# EAGLE library part LTC6812-1 (library linear-technology)
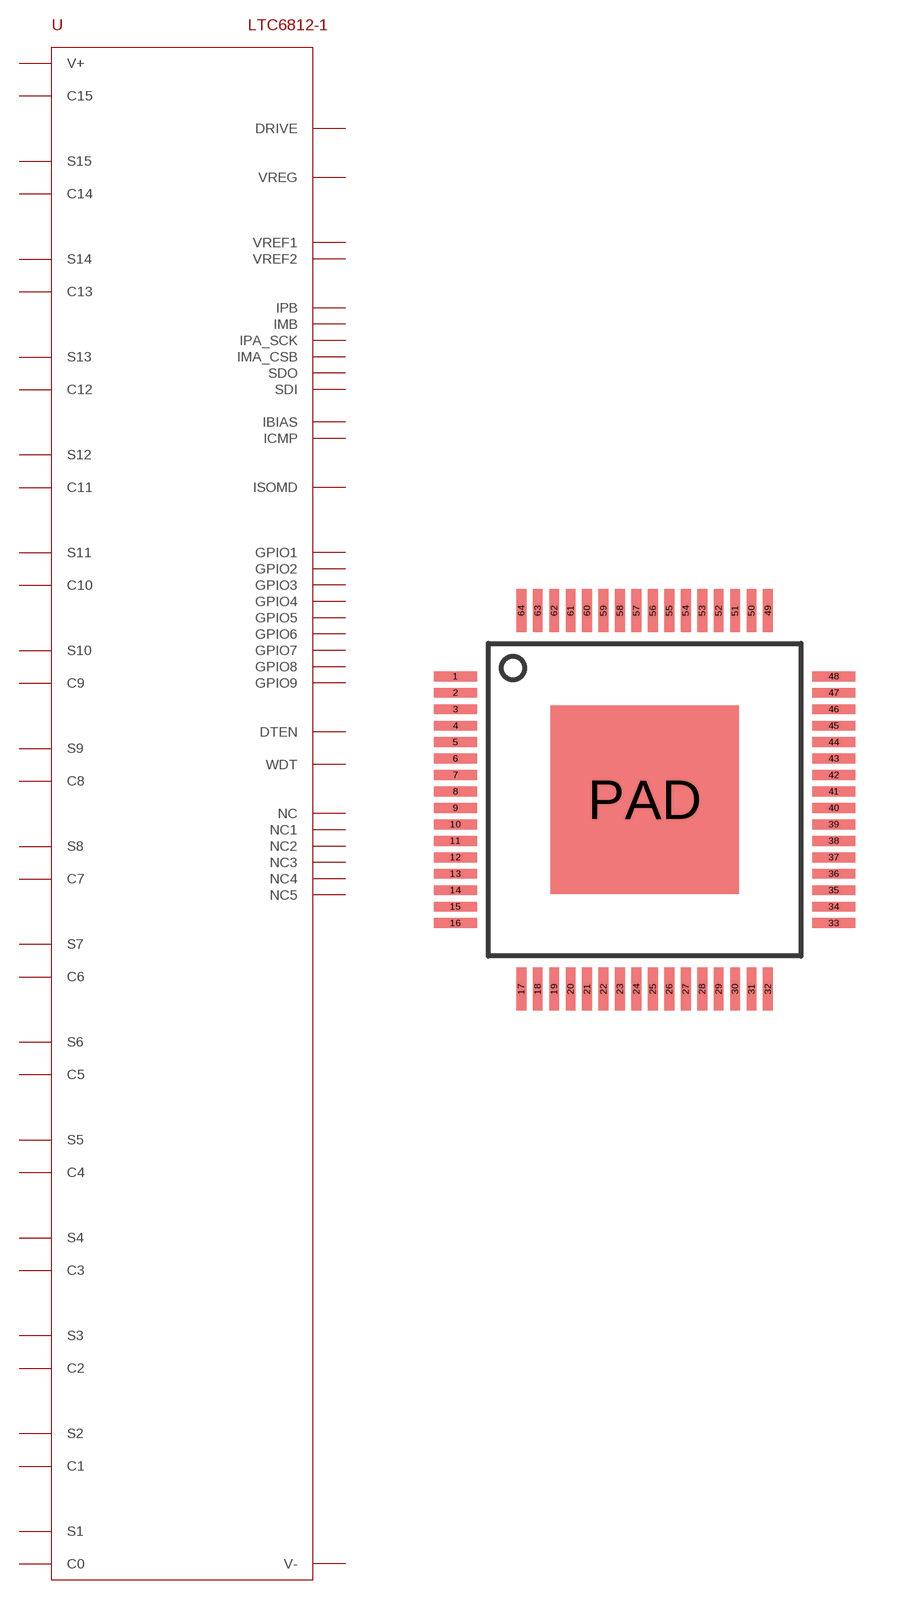
[diagram p36: symbol with the pads of LTC6812-1; footprint LTC6812-1]

Designator prefix U

## LTC6812-1  [LTC6812-1]
1  V+
2  NC
3  NC1
4  C15
5  S15
6  C14
7  S14
8  C13
9  S13
10  C12
11  S12
12  C11
13  S11
14  NC2
15  NC3
16  C10
17  S10
18  C9
19  S9
20  C8
21  S8
22  C7
23  S7
24  C6
25  S6
26  NC4
27  NC5
28  C5
29  S5
30  C4
31  S4
32  C3
33  S3
34  C2
35  S2
36  C1
37  S1
38  C0
39  GPIO1
40  GPIO2
41  GPIO3
42  GPIO4
43  GPIO5
44  GPIO6
45  GPIO7
46  GPIO8
47  GPIO9
48  VREG
49  DRIVE
50  VREF2
51  VREF1
52  DTEN
53  SDI
54  SDO
55  ISOMD
56  WDT
57  IBIAS
58  ICMP
59  V-
60  V-
61  IMA_CSB
62  IPA_SCK
63  IMB
64  IPB
PAD  V-

## Footprint LTC6812-1 (pad centres in mm)
smd 1.3 x 0.3: 1 -5.75,3.75; 2 -5.75,3.25; 3 -5.75,2.75; 4 -5.75,2.25; 5 -5.75,1.75; 6 -5.75,1.25; 7 -5.75,0.75; 8 -5.75,0.25; 9 -5.75,-0.25; 10 -5.75,-0.75; 11 -5.75,-1.25; 12 -5.75,-1.75; 13 -5.75,-2.25; 14 -5.75,-2.75; 15 -5.75,-3.25; 16 -5.75,-3.75; 33 5.75,-3.75; 34 5.75,-3.25; 35 5.75,-2.75; 36 5.75,-2.25; 37 5.75,-1.75; 38 5.75,-1.25; 39 5.75,-0.75; 40 5.75,-0.25; 41 5.75,0.25; 42 5.75,0.75; 43 5.75,1.25; 44 5.75,1.75; 45 5.75,2.25; 46 5.75,2.75; 47 5.75,3.25; 48 5.75,3.75
smd 0.3 x 1.3: 17 -3.75,-5.75; 18 -3.25,-5.75; 19 -2.75,-5.75; 20 -2.25,-5.75; 21 -1.75,-5.75; 22 -1.25,-5.75; 23 -0.75,-5.75; 24 -0.25,-5.75; 25 0.25,-5.75; 26 0.75,-5.75; 27 1.25,-5.75; 28 1.75,-5.75; 29 2.25,-5.75; 30 2.75,-5.75; 31 3.25,-5.75; 32 3.75,-5.75; 49 3.75,5.75; 50 3.25,5.75; 51 2.75,5.75; 52 2.25,5.75; 53 1.75,5.75; 54 1.25,5.75; 55 0.75,5.75; 56 0.25,5.75; 57 -0.25,5.75; 58 -0.75,5.75; 59 -1.25,5.75; 60 -1.75,5.75; 61 -2.25,5.75; 62 -2.75,5.75; 63 -3.25,5.75; 64 -3.75,5.75
smd 5.74 x 5.74: PAD 0,0